# Altium schematic symbol library antenna-db.SchLib: 14 symbols
Pins are listed as number, name and electrical type; pins without a type are passive.

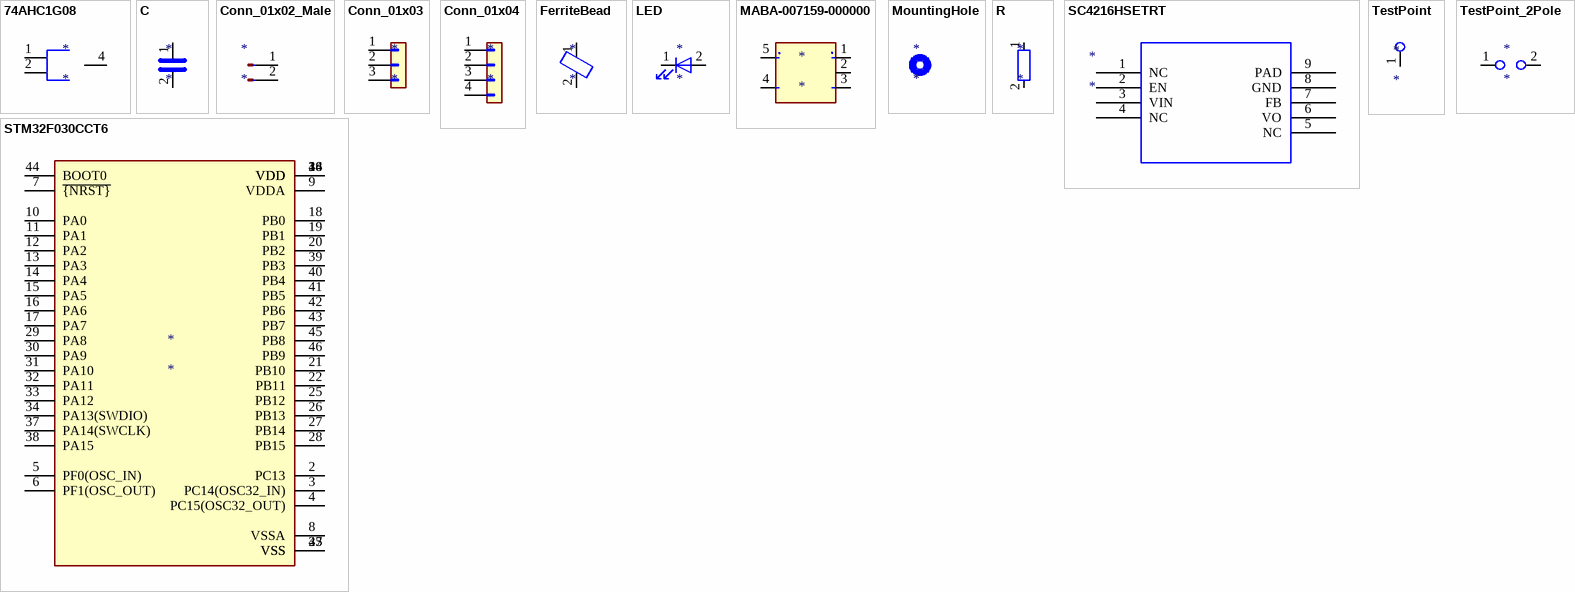
[diagram p0: symbols 74AHC1G08 to TestPoint_2Pole]

## 74AHC1G08
designator *
pins: 1, 2, 3 GND hidden, 4, 5 VCC hidden

## C
designator *
pins: 1, 2

## Conn_01x02_Male
designator *
pins: 1 Pin_1, 2 Pin_2

## Conn_01x03
designator *
pins: 1 Pin_1, 2 Pin_2, 3 Pin_3

## Conn_01x04
designator *
pins: 1 Pin_1, 2 Pin_2, 3 Pin_3, 4 Pin_4

## FerriteBead
designator *
pins: 1, 2

## LED
designator *
pins: 1 K, 2 A

## MABA-007159-000000
designator *
pins: 1, 2, 3, 4, 5

## MountingHole
designator *

## R
designator *
pins: 1, 2

## SC4216HSETRT
designator *
pins: 1 NC, 2 EN, 3 VIN, 4 NC, 5 NC, 6 VO, 7 FB, 8 GND, 9 PAD

## STM32F030CCT6
designator *
pins: 1 VDD, 2 PC13, 3 PC14(OSC32_IN), 4 PC15(OSC32_OUT), 5 PF0(OSC_IN), 6 PF1(OSC_OUT), 7 ~{{NRST}}, 8 VSSA, 9 VDDA, 10 PA0, 11 PA1, 12 PA2, 13 PA3, 14 PA4, 15 PA5, 16 PA6, 17 PA7, 18 PB0, 19 PB1, 20 PB2, 21 PB10, 22 PB11, 23 VSS, 24 VDD, 25 PB12, 26 PB13, 27 PB14, 28 PB15, 29 PA8, 30 PA9, 31 PA10, 32 PA11, 33 PA12, 34 PA13(SWDIO), 35 VSS, 36 VDD, 37 PA14(SWCLK), 38 PA15, 39 PB3, 40 PB4, 41 PB5, 42 PB6, 43 PB7, 44 BOOT0, 45 PB8, 46 PB9, 47 VSS, 48 VDD

## TestPoint
designator *
pins: 1

## TestPoint_2Pole
designator *
pins: 1, 2